# EAGLE library part STM32H7S3V8T6 (library STM32H7S3V8T6)
Arm Cortex-M7 32-bit 600 MHz MCU, 64 KB flash, 620 KB RAM, Ethernet, 2x USB, 2x FD-CAN, advanced graphics and security, 2x 12-bit ADCs Source: Datasheet <https://www.st.com/resource/en/datasheet/stm32h7s3a8.pdf>
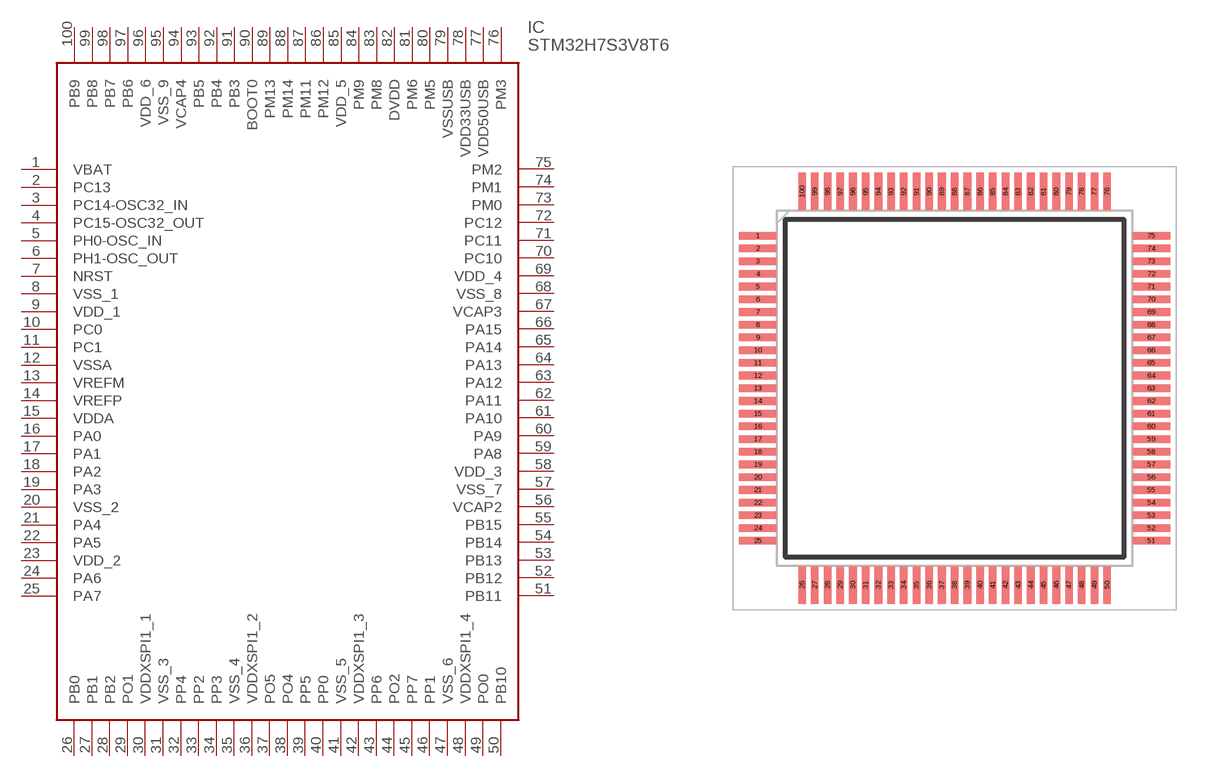
[diagram p0: symbol with the pads of QFP50P1600X1600X160-100N; footprint QFP50P1600X1600X160-100N]

Designator prefix IC

## STM32H7S3V8T6 (Arrow_Part_Number: STM32H7S3V8T6; Arrow_Price-Stock: https://www.arrow.com/en/products/stm32h7s3v8t6/stmicroelectronics?utm_currency=USD&region=nac; Description: Arm Cortex-M7 32-bit 600 MHz MCU, 64 KB flash, 620 KB RAM, Ethernet, 2x USB, 2x FD-CAN, advanced graphics and security, 2x 12-bit ADCs; Height: 1.6mm; Manufacturer_Name: STMicroelectronics; Manufacturer_Part_Number: STM32H7S3V8T6; Mouser_Part_Number: 511-STM32H7S3V8T6; Mouser_Price-Stock: https://www.mouser.co.uk/ProductDetail/STMicroelectronics/STM32H7S3V8T6?qs=ZcfC38r4Povf4Epaiz0E6g%3D%3D)  [QFP50P1600X1600X160-100N]
1  VBAT
2  PC13
3  PC14-OSC32_IN
4  PC15-OSC32_OUT
5  PH0-OSC_IN
6  PH1-OSC_OUT
7  NRST
8  VSS_1
9  VDD_1
10  PC0
11  PC1
12  VSSA
13  VREFM
14  VREFP
15  VDDA
16  PA0
17  PA1
18  PA2
19  PA3
20  VSS_2
21  PA4
22  PA5
23  VDD_2
24  PA6
25  PA7
26  PB0
27  PB1
28  PB2
29  PO1
30  VDDXSPI1_1
31  VSS_3
32  PP4
33  PP2
34  PP3
35  VSS_4
36  VDDXSPI1_2
37  PO5
38  PO4
39  PP5
40  PP0
41  VSS_5
42  VDDXSPI1_3
43  PP6
44  PO2
45  PP7
46  PP1
47  VSS_6
48  VDDXSPI1_4
49  PO0
50  PB10
51  PB11
52  PB12
53  PB13
54  PB14
55  PB15
56  VCAP2
57  VSS_7
58  VDD_3
59  PA8
60  PA9
61  PA10
62  PA11
63  PA12
64  PA13
65  PA14
66  PA15
67  VCAP3
68  VSS_8
69  VDD_4
70  PC10
71  PC11
72  PC12
73  PM0
74  PM1
75  PM2
76  PM3
77  VDD50USB
78  VDD33USB
79  VSSUSB
80  PM5
81  PM6
82  DVDD
83  PM8
84  PM9
85  VDD_5
86  PM12
87  PM11
88  PM14
89  PM13
90  BOOT0
91  PB3
92  PB4
93  PB5
94  VCAP4
95  VSS_9
96  VDD_6
97  PB6
98  PB7
99  PB8
100  PB9

## Footprint QFP50P1600X1600X160-100N (pad centres in mm)
STM32H7S3V8T6
smd 1.475 x 0.3: 1 -7.738,6; 2 -7.738,5.5; 3 -7.738,5; 4 -7.738,4.5; 5 -7.738,4; 6 -7.738,3.5; 7 -7.738,3; 8 -7.738,2.5; 9 -7.738,2; 10 -7.738,1.5; 11 -7.738,1; 12 -7.738,0.5; 13 -7.738,0; 14 -7.738,-0.5; 15 -7.738,-1; 16 -7.738,-1.5; 17 -7.738,-2; 18 -7.738,-2.5; 19 -7.738,-3; 20 -7.738,-3.5; 21 -7.738,-4; 22 -7.738,-4.5; 23 -7.738,-5; 24 -7.738,-5.5; 25 -7.738,-6; 51 7.738,-6; 52 7.738,-5.5; 53 7.738,-5; 54 7.738,-4.5; 55 7.738,-4; 56 7.738,-3.5; 57 7.738,-3; 58 7.738,-2.5; 59 7.738,-2; 60 7.738,-1.5; 61 7.738,-1; 62 7.738,-0.5; 63 7.738,0; 64 7.738,0.5; 65 7.738,1; 66 7.738,1.5; 67 7.738,2; 68 7.738,2.5; 69 7.738,3; 70 7.738,3.5; 71 7.738,4; 72 7.738,4.5; 73 7.738,5; 74 7.738,5.5; 75 7.738,6
smd 0.3 x 1.475: 26 -6,-7.738; 27 -5.5,-7.738; 28 -5,-7.738; 29 -4.5,-7.738; 30 -4,-7.738; 31 -3.5,-7.738; 32 -3,-7.738; 33 -2.5,-7.738; 34 -2,-7.738; 35 -1.5,-7.738; 36 -1,-7.738; 37 -0.5,-7.738; 38 0,-7.738; 39 0.5,-7.738; 40 1,-7.738; 41 1.5,-7.738; 42 2,-7.738; 43 2.5,-7.738; 44 3,-7.738; 45 3.5,-7.738; 46 4,-7.738; 47 4.5,-7.738; 48 5,-7.738; 49 5.5,-7.738; 50 6,-7.738; 76 6,7.738; 77 5.5,7.738; 78 5,7.738; 79 4.5,7.738; 80 4,7.738; 81 3.5,7.738; 82 3,7.738; 83 2.5,7.738; 84 2,7.738; 85 1.5,7.738; 86 1,7.738; 87 0.5,7.738; 88 0,7.738; 89 -0.5,7.738; 90 -1,7.738; 91 -1.5,7.738; 92 -2,7.738; 93 -2.5,7.738; 94 -3,7.738; 95 -3.5,7.738; 96 -4,7.738; 97 -4.5,7.738; 98 -5,7.738; 99 -5.5,7.738; 100 -6,7.738